# EAGLE library part MALE_2X12 (library be_con_jump)
edited: Mario Blunk
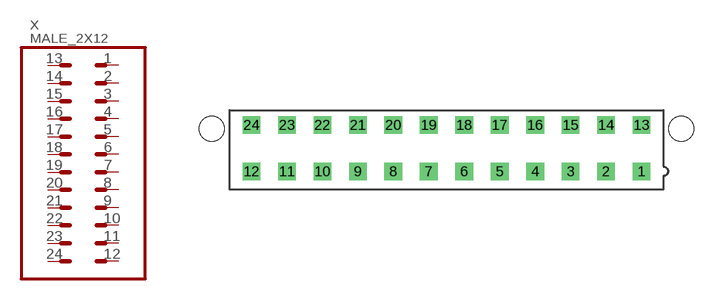
[diagram p22: symbol with the pads of T_MALE_2X12_MINIFIT; footprint T_MALE_2X12_MINIFIT]

Designator prefix X

## MALE_2X12 (BOM: YES; COMMISSIONED: 2015-01-23; PART_CODE_BEL: X_PAC_T_MALE_2X12_MINIFIT)  [T_MALE_2X12_MINIFIT]
1  1  pas
2  2  pas
3  3  pas
4  4  pas
5  5  pas
6  6  pas
7  7  pas
8  8  pas
9  9  pas
10  10  pas
11  11  pas
12  12  pas
13  13  pas
14  14  pas
15  15  pas
16  16  pas
17  17  pas
18  18  pas
19  19  pas
20  20  pas
21  21  pas
22  22  pas
23  23  pas
24  24  pas

## Footprint T_MALE_2X12_MINIFIT (pad centres in mm)
edited: Mario Blunk date: 2015-01-23
drill 1.4 square: 1 23.1,-2.75; 2 18.9,-2.75; 3 14.7,-2.75; 4 10.5,-2.75; 5 6.3,-2.75; 6 2.1,-2.75; 7 -2.1,-2.75; 8 -6.3,-2.75; 9 -10.5,-2.75; 10 -14.7,-2.75; 11 -18.9,-2.75; 12 -23.1,-2.75; 13 23.1,2.75; 14 18.9,2.75; 15 14.7,2.75; 16 10.5,2.75; 17 6.3,2.75; 18 2.1,2.75; 19 -2.1,2.75; 20 -6.3,2.75; 21 -10.5,2.75; 22 -14.7,2.75; 23 -18.9,2.75; 24 -23.1,2.75
hole 3 at -27.8,2.3
hole 3 at 27.8,2.3